# Altium schematic symbol library BUK6Y10-30P.SchLib: 1 symbol
Pins are listed as number, name and electrical type; pins without a type are passive.

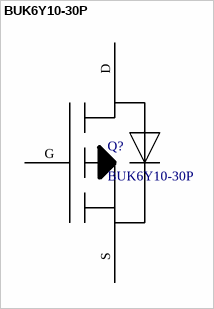
[diagram p0: symbol BUK6Y10-30P]

## BUK6Y10-30P
designator Q?
footprint BUK6Y10-30P
pins: D, G, S